# Altium schematic symbol library ECEN299_Library.SchLib: 3 symbols
Pins are listed as number, name and electrical type; pins without a type are passive.

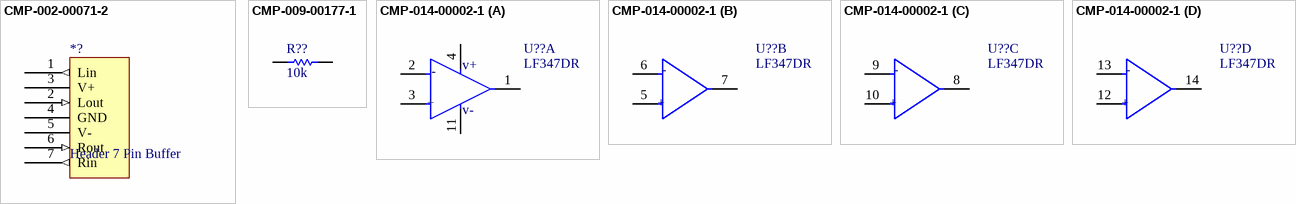
[diagram p0: symbols CMP-002-00071-2 to CMP-014-00002-1]

## CMP-002-00071-2
designator *?, comment Header 7 Pin Buffer
7 Pin Header for ECEN 299 buffer PCB.; Component Type: Connectors
footprint KBS_7pin_Header_Buffer
simulation model NOTSIMULATED (Model Description)
pins: 1 Lin (out), 2 Lout (in), 3 V+ (power), 4 GND (power), 5 V- (power), 6 Rout (in), 7 Rin (out)

## CMP-009-00177-1
designator R??, comment value 10k  (hidden comment: KBS_Resistor)
Fixed Resistor, 0.25W, 10000ohm, 200V, Surface Mount, 1206; Manufacturer: Yageo; Manufacturer Part Number: RC1206FR-0710KL; Tolerance: 1%; Power: 250mW; Pins: 2; RoHS Compliant: Yes; Max Operating Temperature: 155°C; Mounting Technology: Surface Mount; Min Operating Temperature: -55°C; Case/Package: 1206; Component Type: Resistors
footprint KBS_SMD0603
footprint KBS_SMD0805
footprint KBS_SMD1206
pins: 1, 2

## CMP-014-00002-1
designator U??, comment LF347DR
Operational Amplifier, 4 Func, 13000uV Offset-Max, JFET, PDSO14; Manufacturer: Texas Instruments; Nominal Supply Voltage: 15V; Channels: 4; Max Operating Temperature: 70°C; Min Operating Temperature: 0°C; RoHS Compliant: Yes; Pins: 14; Case/Package: SOP; Manufacturer Part Number: LF347DR; Component Type: Amplifiers
footprint KBS_SO14_w_Guide_Pin_Holes
simulation model IDEALOPAMP_5NODES (Model Description)
part A pins: 1 1OUT, 2 1IN- (hiz), 3 1IN+ (hiz), 4 VCC+ (power), 11 VCC- (power)
part B pins: 5 2IN+ (hiz), 6 2IN- (hiz), 7 2OUT
part C pins: 8 3OUT, 9 3IN- (hiz), 10 3IN+ (hiz)
part D pins: 12 4IN+ (hiz), 13 4IN- (hiz), 14 4OUT
part A text: v+; -; +; v-
part B text: -; +
part C text: -; +
part D text: -; +